# Altium schematic symbol library Schlib1.SchLib: 3 symbols
Pins are listed as number, name and electrical type; pins without a type are passive.

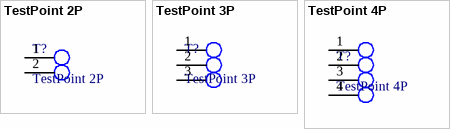
[diagram p0: symbols TestPoint 2P to TestPoint 4P]

## TestPoint 2P
designator T?
footprint TestPoint_2P_P1.27
pins: 1, 2

## TestPoint 3P
designator T?
footprint TestPoint_3P_P1.27
pins: 1, 2, 3

## TestPoint 4P
designator T?
footprint TestPoint_4P_P1.27
pins: 1, 2, 3, 4